# Altium footprint library CONN_B2B.PcbLib: 36 footprints (part 3 of 3)
Each footprint in its own frame and in the unit in brackets; x right, y up, seen from the top. Pads: shape width x height; smd on the part's side, far side on the other; paste and mask are expansions set on the pad; w line width, h text height; cw(c..) or ccw(c..) is an arc to the next point about the centre after c.
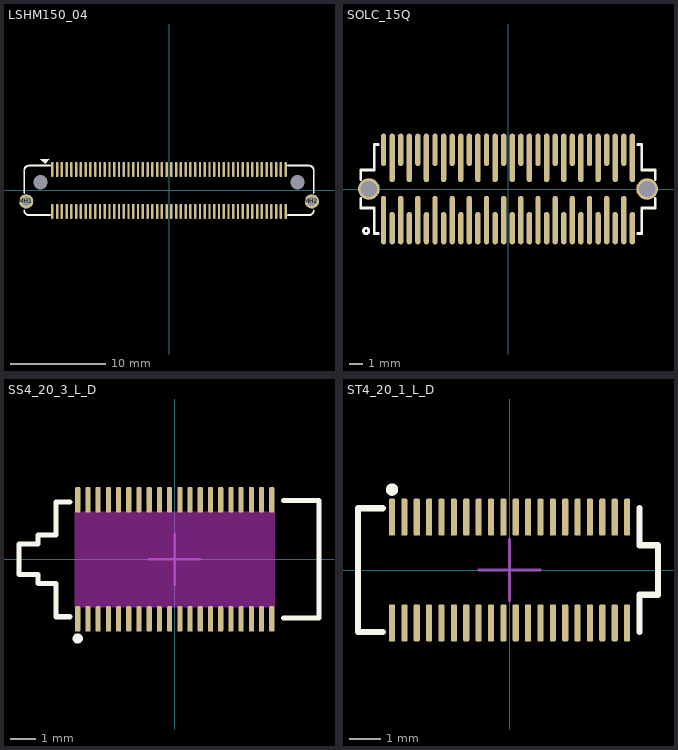
[diagram p2: the footprints below, top view; thin cyan lines are the x and y axes]

## LSHM150_04 [mm] "LSHM-150-04.0-L-DV-A-S"
pads (104):
  oval 0.25x1.6 smd mask+0.075: 1(-12.25,2.2) 2(-12.25,-2.2) 3(-11.75,2.2) 4(-11.75,-2.2) 5(-11.25,2.2) 6(-11.25,-2.2) 7(-10.75,2.2) 8(-10.75,-2.2) 9(-10.25,2.2) 10(-10.25,-2.2) 11(-9.75,2.2) 12(-9.75,-2.2) 13(-9.25,2.2) 14(-9.25,-2.2) 15(-8.75,2.2) 16(-8.75,-2.2) 17(-8.25,2.2) 18(-8.25,-2.2) 19(-7.75,2.2) 20(-7.75,-2.2) 21(-7.25,2.2) 22(-7.25,-2.2) 23(-6.75,2.2) 24(-6.75,-2.2) 25(-6.25,2.2) 26(-6.25,-2.2) 27(-5.75,2.2) 28(-5.75,-2.2) 29(-5.25,2.2) 30(-5.25,-2.2) 31(-4.75,2.2) 32(-4.75,-2.2) 33(-4.25,2.2) 34(-4.25,-2.2) 35(-3.75,2.2) 36(-3.75,-2.2) 37(-3.25,2.2) 38(-3.25,-2.2) 39(-2.75,2.2) 40(-2.75,-2.2) 41(-2.25,2.2) 42(-2.25,-2.2) 43(-1.75,2.2) 44(-1.75,-2.2) 45(-1.25,2.2) 46(-1.25,-2.2) 47(-0.75,2.2) 48(-0.75,-2.2) 49(-0.25,2.2) 50(-0.25,-2.2) 51(0.25,2.2) 52(0.25,-2.2) 53(0.75,2.2) 54(0.75,-2.2) 55(1.25,2.2) 56(1.25,-2.2) 57(1.75,2.2) 58(1.75,-2.2) 59(2.25,2.2) 60(2.25,-2.2) 61(2.75,2.2) 62(2.75,-2.2) 63(3.25,2.2) 64(3.25,-2.2) 65(3.75,2.2) 66(3.75,-2.2) 67(4.25,2.2) 68(4.25,-2.2) 69(4.75,2.2) 70(4.75,-2.2) 71(5.25,2.2) 72(5.25,-2.2) 73(5.75,2.2) 74(5.75,-2.2) 75(6.25,2.2) 76(6.25,-2.2) 77(6.75,2.2) 78(6.75,-2.2) 79(7.25,2.2) 80(7.25,-2.2) 81(7.75,2.2) 82(7.75,-2.2) 83(8.25,2.2) 84(8.25,-2.2) 85(8.75,2.2) 86(8.75,-2.2) 87(9.25,2.2) 88(9.25,-2.2) 89(9.75,2.2) 90(9.75,-2.2) 91(10.25,2.2) 92(10.25,-2.2) 93(10.75,2.2) 94(10.75,-2.2) 95(11.25,2.2) 96(11.25,-2.2) 97(11.75,2.2) 98(11.75,-2.2) 99(12.25,2.2) 100(12.25,-2.2)
  round 1.5 hole 1: MH1(-15,-1.15) MH2(15,-1.15)
  round 0 hole 1.5 unplated mask+0.1: ""(-13.5,0.85) ""(13.5,0.85)
Top Overlay:
  region: -13.007,2.807 -12.514,3.3 -13.5,3.3
  lines w0.2: -15.2,-2.1 ccw(c-14.7,-2.1) -14.7,-2.6 -12.5,-2.6 ; -15.2,-0.3 -15.2,2.1 cw(c-14.7,2.1) -14.7,2.6 -12.5,2.6 ; 12.5,-2.6 14.7,-2.6 ccw(c14.7,-2.1) 15.2,-2.1 ; 12.5,2.6 14.7,2.6 cw(c14.7,2.1) 15.2,2.1 15.2,-0.3
3D body "LSHM-150-04.0-L-DV-A-S-TR.stp": height 5.45, standoff -1.65, extent -15.399,-2.49 15.399,2.49

## SOLC_15Q [mm] "SAMTEC SOLC-115-02-S-Q-LC"
height 0.6
pads (62):
  oval 0.4x2.4 smd: A1(-8.575,-2.9) A2(-7.305,-2.9) A3(-6.035,-2.9) A4(-4.765,-2.9) A5(-3.495,-2.9) A6(-2.225,-2.9) A7(-0.955,-2.9) A8(0.315,-2.9) A9(1.585,-2.9) A10(2.855,-2.9) A11(4.125,-2.9) A12(5.395,-2.9) A13(6.665,-2.9) A14(7.935,-2.9) A15(9.205,-2.9) D1(-9.21,2.9) D2(-7.94,2.9) D3(-6.67,2.9) D4(-5.4,2.9) D5(-4.13,2.9) D6(-2.86,2.9) D7(-1.59,2.9) D8(-0.32,2.9) D9(0.95,2.9) D10(2.22,2.9) D11(3.49,2.9) D12(4.76,2.9) D13(6.03,2.9) D14(7.3,2.9) D15(8.57,2.9)
  oval 0.4x3.6 smd: B1(-9.21,-2.3) B2(-7.94,-2.3) B3(-6.67,-2.3) B4(-5.4,-2.3) B5(-4.13,-2.3) B6(-2.86,-2.3) B7(-1.59,-2.3) B8(-0.32,-2.3) B9(0.95,-2.3) B10(2.22,-2.3) B11(3.49,-2.3) B12(4.76,-2.3) B13(6.03,-2.3) B14(7.3,-2.3) B15(8.57,-2.3) C1(-8.575,2.3) C2(-7.305,2.3) C3(-6.035,2.3) C4(-4.765,2.3) C5(-3.495,2.3) C6(-2.225,2.3) C7(-0.955,2.3) C8(0.315,2.3) C9(1.585,2.3) C10(2.855,2.3) C11(4.125,2.3) C12(5.395,2.3) C13(6.665,2.3) C14(7.935,2.3) C15(9.205,2.3)
  round 1.6 / inner round 1.5 / far side oval 1.6x2.5 hole 1.2: ""(-10.3,0) ""(10.3,0)
Top Overlay:
  circle w0.2: c-10.5,-3.1 r0.2
  lines w0.2: -10.9,-0.7 -10.9,-1.4 -9.9,-1.4 -9.9,-3.3 -9.6,-3.3 ; -10.9,0.7 -10.9,1.4 -9.9,1.4 -9.9,3.3 -9.6,3.3 ; 9.6,-3.3 9.9,-3.3 9.9,-1.4 10.9,-1.4 10.9,-0.7 ; 9.6,3.3 9.9,3.3 9.9,1.4 10.9,1.4 10.9,0.7
3D body "SOLC-115-02-S-Q-LC.stp": height 4.56, standoff -1.41, extent -10.795,-3.556 10.795,3.556

## SS4_20_3_L_D [mm] "CONN, SS4-20-3.00-L-D"
pads (40):
  rrect50% 0.2x1 smd paste+0 mask+0.05: 01(-3.8,-2.335) 02(-3.8,2.335) 03(-3.4,-2.335) 04(-3.4,2.335) 05(-3,-2.335) 06(-3,2.335) 07(-2.6,-2.335) 08(-2.6,2.335) 09(-2.2,-2.335) 10(-2.2,2.335) 11(-1.8,-2.335) 12(-1.8,2.335) 13(-1.4,-2.335) 14(-1.4,2.335) 15(-1,-2.335) 16(-1,2.335) 17(-0.6,-2.335) 18(-0.6,2.335) 19(-0.2,-2.335) 20(-0.2,2.335) 21(0.2,-2.335) 22(0.2,2.335) 23(0.6,-2.335) 24(0.6,2.335) 25(1,-2.335) 26(1,2.335) 27(1.4,-2.335) 28(1.4,2.335) 29(1.8,-2.335) 30(1.8,2.335) 31(2.2,-2.335) 32(2.2,2.335) 33(2.6,-2.335) 34(2.6,2.335) 35(3,-2.335) 36(3,2.335) 37(3.4,-2.335) 38(3.4,2.335) 39(3.8,-2.335) 40(3.8,2.335)
Top Overlay:
  circle w0.2: c-3.8,-3.1 r0.1
  lines w0.2: -4.1,-2.25 -4.65,-2.25 -4.65,-0.95 -5.35,-0.95 -5.35,-0.6 -6.1,-0.6 -6.1,0.6 -5.35,0.6 -5.35,0.95 -4.65,0.95 -4.65,2.25 -4.1,2.25 ; 4.265,-2.3 5.65,-2.3 5.65,2.3 4.265,2.3
Keep-Out Layer:
  region: -3.915,1.87 3.915,1.87 3.915,-1.87 -3.915,-1.87
Mechanical 13:
  lines w0.1: -1,0 1,0 ; 0,-1 0,1
3D body "SS4-20-3.00-L-D.stp": height 3.48, standoff -0.02, extent -5.98,-2.5 5.56,2.5

## ST4_20_1_L_D [mm] "CONN, ST4-20-1.00-L-D"
pads (40):
  rrect50% 0.2x1.2 smd paste+0 mask+0.05: 1(-3.8,1.71) 2(-3.8,-1.71) 3(-3.4,1.71) 4(-3.4,-1.71) 5(-3,1.71) 6(-3,-1.71) 7(-2.6,1.71) 8(-2.6,-1.71) 9(-2.2,1.71) 10(-2.2,-1.71) 11(-1.8,1.71) 12(-1.8,-1.71) 13(-1.4,1.71) 14(-1.4,-1.71) 15(-1,1.71) 16(-1,-1.71) 17(-0.6,1.71) 18(-0.6,-1.71) 19(-0.2,1.71) 20(-0.2,-1.71) 21(0.2,1.71) 22(0.2,-1.71) 23(0.6,1.71) 24(0.6,-1.71) 25(1,1.71) 26(1,-1.71) 27(1.4,1.71) 28(1.4,-1.71) 29(1.8,1.71) 30(1.8,-1.71) 31(2.2,1.71) 32(2.2,-1.71) 33(2.6,1.71) 34(2.6,-1.71) 35(3,1.71) 36(3,-1.71) 37(3.4,1.71) 38(3.4,-1.71) 39(3.8,1.71) 40(3.8,-1.71)
Top Overlay:
  circle w0.2: c-3.8,2.6 r0.1
  lines w0.2: -4.1,-2 -4.9,-2 -4.9,2 -4.1,2 ; 4.2,-2 4.2,-0.8 4.8,-0.8 4.8,0.8 4.2,0.8 4.2,2
Mechanical 13:
  lines w0.1: -1,0 1,0 ; 0,-1 0,1
3D body "ST4-20-1.00-L-D.stp": height 3.09, standoff 0.01, extent -4.875,-2 4.705,2